# Altium footprint library TE Connectors.PcbLib: 1 footprints
Each footprint in its own frame and in the unit in brackets; x right, y up, seen from the top. Pads: shape width x height; smd on the part's side, far side on the other; paste and mask are expansions set on the pad; w line width, h text height; cw(c..) or ccw(c..) is an arc to the next point about the centre after c.
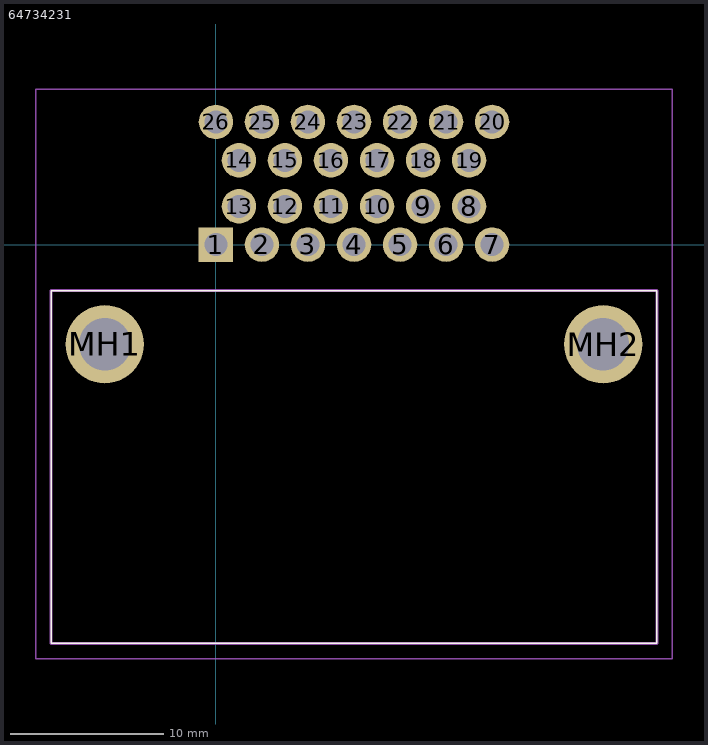
[diagram p0: the footprint, top view; thin cyan lines are the x and y axes]

## 64734231 [mm]
pads (28):
  rect 2.25x2.25 hole 1.5: 1(0,0)
  round 2.25 hole 1.5: 2(3,0) 3(6,0) 4(9,0) 5(12,0) 6(15,0) 7(18,0) 8(16.5,2.5) 9(13.5,2.5) 10(10.5,2.5) 11(7.5,2.5) 12(4.5,2.5) 13(1.5,2.5) 14(1.5,5.5) 15(4.5,5.5) 16(7.5,5.5) 17(10.5,5.5) 18(13.5,5.5) 19(16.5,5.5) 20(18,8) 21(15,8) 22(12,8) 23(9,8) 24(6,8) 25(3,8) 26(0,8)
  round 5.1 hole 3.4: MH1(-7.25,-6.5) MH2(25.25,-6.5)
Top Overlay:
  lines w0.1: -10.75,-26 -10.75,-3 28.75,-3 28.75,-26 -10.75,-26
Mechanical 13:
  lines w0.2: -10.75,-26 -10.75,-3 28.75,-3 28.75,-26 -10.75,-26
Mechanical 15:
  lines w0.1: -11.75,-27 -11.75,10.125 29.75,10.125 29.75,-27 -11.75,-27
3D body "6473423-1.stp": height 28.27, standoff -3.88, extent -10.75,-26.01 28.75,10.49